# EAGLE library part TLC04ID (library TLC04ID)
SWITCHED-CAPACITOR FILTERS
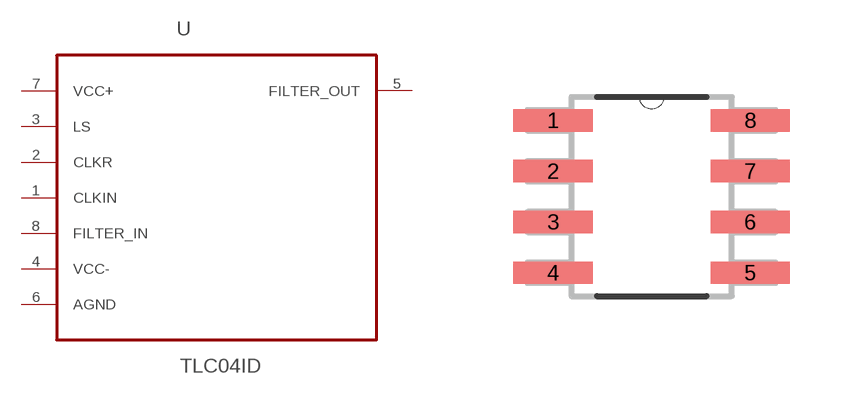
[diagram p0: symbol with the pads of SOIC127P600X175-8N; footprint SOIC127P600X175-8N]

Designator prefix U

## TLC04ID (Availability: Unavailable; Description: Active Filter Single SW-CAP Low Pass 4th Order 40kHz 8-Pin SOIC Tube; MF: Texas Instruments; MP: TLC04ID; Package: SOIC-8 Texas Instruments; Price: None)  [SOIC127P600X175-8N]
1  CLKIN  in
2  CLKR  in
3  LS  in
4  VCC-  pwr
5  FILTER_OUT  out
6  AGND  pas
7  VCC+  pwr
8  FILTER_IN  in

## Footprint SOIC127P600X175-8N (pad centres in mm)
smd 1.981 x 0.559: 1 -2.464,1.905; 2 -2.464,0.635; 3 -2.464,-0.635; 4 -2.464,-1.905; 5 2.464,-1.905; 6 2.464,-0.635; 7 2.464,0.635; 8 2.464,1.905